# Altium schematic symbol library AnalogHmwschlib.SchLib: 11 symbols
Pins are listed as number, name and electrical type; pins without a type are passive.

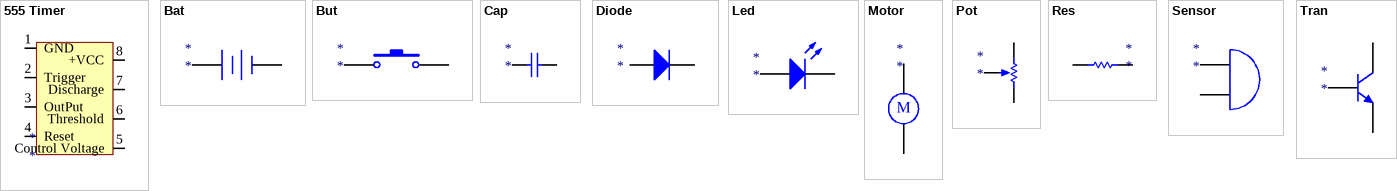
[diagram p0: symbols 555 Timer to Tran]

## 555 Timer
designator *
footprint 555 Timer
pins: 1 GND, 2 Trigger, 3 OutPut, 4 Reset, 5 Control Voltage, 6 Threshold, 7 Discharge, 8 +VCC

## Bat
designator *
footprint Bat
pins: 1 +, 2 -

## But
designator *
footprint But
pins: 1, 2

## Cap
designator *
footprint Cap
pins: 1, 2

## Diode
designator *
footprint Diode
pins: 1 A, 2 K

## Led
designator *
footprint Led
pins: 1 A, 2 K

## Motor
designator *
footprint Motor
pins: 1, 2
text: M

## Pot
designator *
footprint Pot
pins: 1 TOP, 2 BOT, 3 TAP

## Res
designator *
footprint Res
pins: 1, 2

## Sensor
designator *
footprint Sensor
pins: 1 A, 2 B

## Tran
designator *
footprint Tran
pins: 1 C, 2 B, 3 E